# Altium footprint library 0512.PcbLib: 45 footprints (part 2 of 3)
Each footprint in its own frame and in the unit in brackets; x right, y up, seen from the top. Pads: shape width x height; smd on the part's side, far side on the other; paste and mask are expansions set on the pad; w line width, h text height; cw(c..) or ccw(c..) is an arc to the next point about the centre after c.
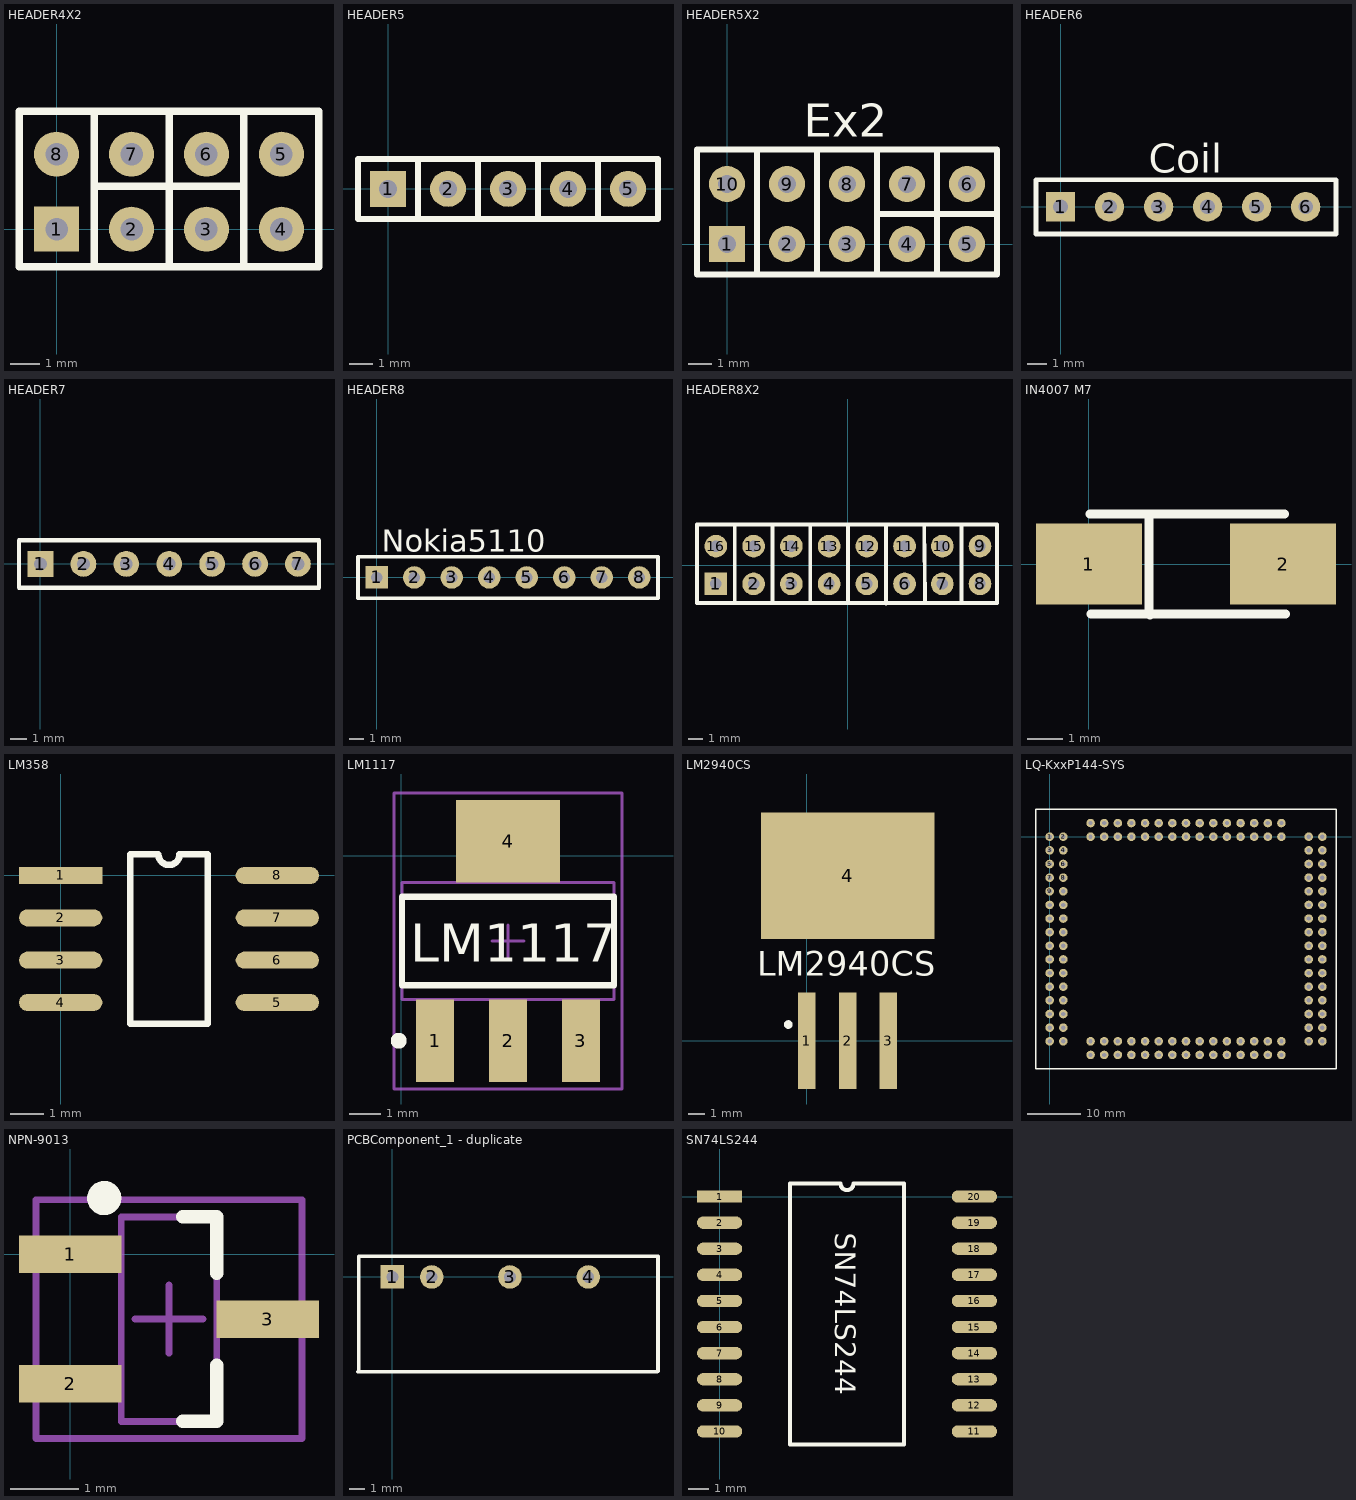
[diagram p1: the footprints below, top view; thin cyan lines are the x and y axes]

## HEADER4X2 [mil]
pads (8):
  rect 60x60 hole 30: 1(0,0)
  round 60 hole 30: 2(100,0) 3(200,0) 4(300,0) 5(300,100) 6(200,100) 7(100,100) 8(0,100)
Top Overlay:
  lines w10: -50,25 -50,157.48 350,157.48 350,-50.39 -50,-50.39 -50,75 ; 50,-50.39 50,157.48 ; 50,57 247,57 ; 150,-50.39 150,157.48 ; 250,-50.39 250,157.48

## HEADER5 [mil]
pads (5):
  rect 60x60 hole 30: 1(0,0)
  round 60 hole 30: 2(100,0) 3(200,0) 4(300,0) 5(400,0)
Top Overlay:
  lines w10: -50,25 -50,50 ; 50,-50.39 50,50 ; 150,-50.39 150,49 ; 250,-50.39 250,50 450,50 ; 350,-50.39 350,50 ; -50,50 -50,-50.39 450,-50.39 450,50 ; -50,50 450,50

## HEADER5X2 [mil]
pads (10):
  rect 60x60 hole 30: 1(0,0)
  round 60 hole 30: 2(100,0) 3(200,0) 4(300,0) 5(400,0) 6(400,100) 7(300,100) 8(200,100) 9(100,100) 10(0,100)
Top Overlay:
  lines w10: -50,25 -50,157.48 450,157.48 450,-50.39 -50,-50.39 -50,75 ; 50,-50.39 50,157.48 ; 150,-50.39 150,157.48 ; 250,-50.39 250,157.48 ; 250,50 450,50 ; 350,-50.39 350,157.48
  text "Ex2" at 128,179 h55

## HEADER6 [mil]
pads (6):
  rect 60x60 hole 30: 1(0,0)
  round 60 hole 30: 2(100,0) 3(200,0) 4(300,0) 5(400,0) 6(500,0)
Top Overlay:
  lines w10: -50,-55.51 562,-55.51 562,55.12 -50,55.12 -50,-55.51
  text "Coil" at 180,69 h59.06

## HEADER7 [mil] "OLED插槽"
height 1574.8
pads (7):
  rect 60x60 hole 30: 1(0,0)
  round 60 hole 30: 2(100,0) 3(200,0) 4(300,0) 5(400,0) 6(500,0) 7(600,0)
Top Overlay:
  lines w10: -50,-55.51 649,-55.51 649,55.12 -50,55.12 -50,-55.51

## HEADER8 [mil]
pads (8):
  rect 60x60 hole 30: 1(0,0)
  round 60 hole 30: 2(100,0) 3(200,0) 4(300,0) 5(400,0) 6(500,0) 7(600,0) 8(700,0)
Top Overlay:
  lines w10: -50,-55.51 -50,55.12 750,55.12 750,-55.51 -50,-55.51
  text "Nokia5110" at 12.99,68.11 h59.06

## HEADER8X2 [mil]
height 1574.8
pads (16):
  rect 60x60 hole 30: 1(-350,-50)
  round 60 hole 30: 2(-250,-50) 3(-150,-50) 4(-50,-50) 5(50,-50) 6(150,-50) 7(250,-50) 8(350,-50) 9(350,50) 10(250,50) 11(150,50) 12(50,50) 13(-50,50) 14(-150,50) 15(-250,50) 16(-350,50)
Top Overlay:
  lines w10: -400,-25 -400,107.48 395,107.48 395,-100.39 -400,-100.39 -400,25 ; -300,-100.39 -300,107.48 ; -200,-100.39 -200,107.48 ; -100,-100.39 -100,107.48 ; 0,-100.39 0,107.48 ; 101,-102 101,106 ; 202,107.48 204,-96 ; 301,-100.39 301,106

## IN4007 M7 [mm] "贴片4007整流二极管"
height 10
pads (2):
  rect 3x2.3 smd: 1(0,0) 2(5.5,0)
Top Overlay:
  lines w0.254: 0.025,1.422 5.537,1.422 ; 0.051,-1.422 5.563,-1.422 ; 1.702,1.422 1.702,-1.422 1.727,-1.448

## LM358 [mm]
pads (8):
  rect 2.5x0.51 smd: 1(0,0)
  oval 2.5x0.51 smd: 2(0,-1.27) 3(0,-2.54) 4(0,-3.81) 5(6.5,-3.81) 6(6.5,-2.54) 7(6.5,-1.27) 8(6.5,0)
Top Overlay:
  lines w0.2: 2.085,-4.445 2.085,0.635 2.932,0.635 ccw(c3.25,0.635) 3.567,0.635 4.415,0.635 4.415,-4.445 2.085,-4.445

## LM1117 [mm] "SOT223"
height 1.8
pads (4):
  rect 1.2x2.6 smd: 1(1.067,-5.842) 2(3.367,-5.842) 3(5.667,-5.842)
  rect 3.3x2.6 smd: 4(3.367,0.458)
Top Overlay:
  circle w0.25: c-0.083,-5.842 r0.125
  lines w0.2: 0.017,-4.092 0.017,-1.292 6.717,-1.292 6.717,-4.092 0.017,-4.092
  text "LM1117" at 0.279,-3.353 h1.2
Mechanical 13:
  lines w0.1: 0.017,-4.542 0.017,-0.842 6.717,-0.842 6.717,-4.542 0.017,-4.542
Mechanical 15:
  lines w0.1: 2.867,-2.692 3.867,-2.692 ; 3.367,-3.192 3.367,-2.192 ; -0.233,-7.367 -0.233,1.983 6.967,1.983 6.967,-7.367 -0.233,-7.367
3D body: height 1.8, standoff 0.02, extent 0.017,-4.542 6.717,-0.842

## LM2940CS [mm]
height 1.8
pads (4):
  rect 1.1x6 smd: 1(0,0) 2(2.54,0) 3(5.08,0)
  rect 10.8x7.9 smd: 4(2.54,10.287)
Top Overlay:
  circle w0.254: c-1.156,1.016 r0.14
  text "LM2940CS" at -3.073,4.064 h1.52

## LQ-KxxP144-SYS [mm]
height 20
pads (124):
  round 1.6 hole 0.8: 1(0,0) 2(2.54,0) 3(0,-2.54) 4(2.54,-2.54) 5(0,-5.08) 6(2.54,-5.08) 7(0,-7.62) 8(2.54,-7.62) 9(0,-10.16) 10(2.54,-10.16) 11(0,-12.7) 12(2.54,-12.7) 13(0,-15.24) 14(2.54,-15.24) 15(0,-17.78) 16(2.54,-17.78) 17(0,-20.32) 18(2.54,-20.32) 19(0,-22.86) 20(2.54,-22.86) 21(0,-25.4) 22(2.54,-25.4) 23(0,-27.94) 24(2.54,-27.94) 25(0,-30.48) 26(2.54,-30.48) 27(0,-33.02) 28(2.54,-33.02) 29(0,-35.56) 30(2.54,-35.56) 31(0,-38.1) 32(2.54,-38.1) 33(7.62,-40.64) 34(7.62,-38.1) 35(10.16,-40.64) 36(10.16,-38.1) 37(12.7,-40.64) 38(12.7,-38.1) 39(15.24,-40.64) 40(15.24,-38.1) 41(17.78,-40.64) 42(17.78,-38.1) 43(20.32,-40.64) 44(20.32,-38.1) 45(22.86,-40.64) 46(22.86,-38.1) 47(25.4,-40.64) 48(25.4,-38.1) 49(27.94,-40.64) 50(27.94,-38.1) 51(30.48,-40.64) 52(30.48,-38.1) 53(33.02,-40.64) 54(33.02,-38.1) 55(35.56,-40.64) 56(35.56,-38.1) 57(38.1,-40.64) 58(38.1,-38.1) 59(40.64,-40.64) 60(40.64,-38.1) 61(43.18,-40.64) 62(43.18,-38.1) 63(50.8,-38.1) 64(48.26,-38.1) 65(50.8,-35.56) 66(48.26,-35.56) 67(50.8,-33.02) 68(48.26,-33.02) 69(50.8,-30.48) 70(48.26,-30.48) 71(50.8,-27.94) 72(48.26,-27.94) 73(50.8,-25.4) 74(48.26,-25.4) 75(50.8,-22.86) 76(48.26,-22.86) 77(50.8,-20.32) 78(48.26,-20.32) 79(50.8,-17.78) 80(48.26,-17.78) 81(50.8,-15.24) 82(48.26,-15.24) 83(50.8,-12.7) 84(48.26,-12.7) 85(50.8,-10.16) 86(48.26,-10.16) 87(50.8,-7.62) 88(48.26,-7.62) 89(50.8,-5.08) 90(48.26,-5.08) 91(50.8,-2.54) 92(48.26,-2.54) 93(50.8,0) 94(48.26,0) 95(43.18,2.54) 96(43.18,0) 97(40.64,2.54) 98(40.64,0) 99(38.1,2.54) 100(38.1,0) 101(35.56,2.54) 102(35.56,0) 103(33.02,2.54) 104(33.02,0) 105(30.48,2.54) 106(30.48,0) 107(27.94,2.54) 108(27.94,0) 109(25.4,2.54) 110(25.4,0) 111(22.86,2.54) 112(22.86,0) 113(20.32,2.54) 114(20.32,0) 115(17.78,2.54) 116(17.78,0) 117(15.24,2.54) 118(15.24,0) 119(12.7,2.54) 120(12.7,0) 121(10.16,2.54) 122(10.16,0) 123(7.62,2.54) 124(7.62,0)
Top Overlay:
  lines w0.254: 53.34,4.47 53.34,5.08 ; 53.34,5.08 53.34,-43.18 -2.54,-43.18 -2.54,5.08 53.34,5.08

## NPN-9013 [mm] "SOT23, 3-Leads, Body 3.0x2.6mm (max), Pitch 0.95mm, IPC Medium Density"
height 1.1
pads (3):
  rect 1.5x0.55 smd: 1(0,0) 2(0,-1.9) 3(2.9,-0.95)
Top Overlay:
  circle w0.25: c0.5,0.825 r0.125
  lines w0.2: 1.65,-2.45 2.15,-2.45 2.15,-1.625 ; 1.65,0.55 2.15,0.55 2.15,-0.275
Mechanical 13:
  lines w0.1: 0.75,-2.45 0.75,0.55 2.15,0.55 2.15,-2.45 0.75,-2.45
Mechanical 15:
  lines w0.1: 0.95,-0.95 1.95,-0.95 ; 1.45,-1.45 1.45,-0.45 ; -0.5,-2.7 -0.5,0.8 3.4,0.8 3.4,-2.7 -0.5,-2.7
3D body: height 1.1, standoff 0.05, extent 0.75,-2.45 2.15,0.55

## PCBComponent_1 [mil]

## PCBComponent_1 - duplicate [mil]
pads (4):
  rect 60x60 hole 30: 1(1,-1)
  round 60 hole 30: 2(101,-1) 3(301,-1) 4(501,-1)
Top Overlay:
  lines w10: -87,-243 -85,-241 -85,-223 -85,52 679,52 679,-241 677,-243 -87,-243

## SN74LS244 [mm]
pads (20):
  rect 2.2x0.6 smd: 1(0,0)
  oval 2.2x0.6 smd: 2(0,-1.27) 3(0,-2.54) 4(0,-3.81) 5(0,-5.08) 6(0,-6.35) 7(0,-7.62) 8(0,-8.89) 9(0,-10.16) 10(0,-11.43) 11(12.4,-11.43) 12(12.4,-10.16) 13(12.4,-8.89) 14(12.4,-7.62) 15(12.4,-6.35) 16(12.4,-5.08) 17(12.4,-3.81) 18(12.4,-2.54) 19(12.4,-1.27) 20(12.4,0)
Top Overlay:
  lines w0.2: 3.435,-12.065 8.965,-12.065 8.965,0.635 6.517,0.635 cw(c6.2,0.635) 5.882,0.635 3.435,0.635 3.435,-12.065
  text "SN74LS244" at 5.64,-1.753 h1